# EAGLE library part TL974 (library ICs)
Operational Amplifier, Quad, 12 MHz, 4 Amplifier, 5 V/µs, 2.7V to 12V, TSSOP, 14 Pins
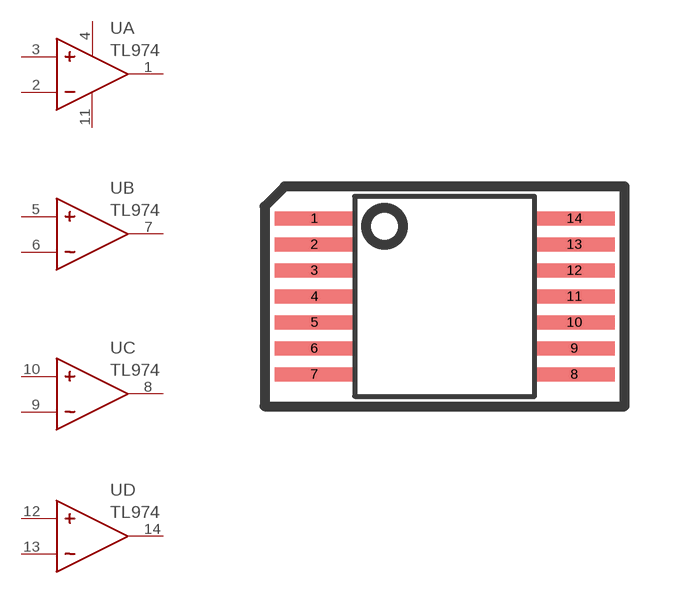
[diagram p124: symbol with the pads of TSSOP14; footprint TSSOP14]

Designator prefix U; gates A=OPAMP_SUPPLIES B=OPAMP_NOSUPPLIES C=OPAMP_NOSUPPLIES D=OPAMP_NOSUPPLIES

## TL974 (FARNELL: 2342307; HEIGHT: 1.2; PRICE_PER: 0.594; VALUE: TL974)  [TSSOP14]
1  A:OUT
2  A:-
3  A:+
4  A:V+
5  B:+
6  B:-
7  B:OUT
8  C:OUT
9  C:-
10  C:+
11  A:V-
12  D:+
13  D:-
14  D:OUT

## Footprint TSSOP14 (pad centres in mm)
smd 2 x 0.35: 1 -3.25,1.95; 2 -3.25,1.3; 3 -3.25,0.65; 4 -3.25,0; 5 -3.25,-0.65; 6 -3.25,-1.3; 7 -3.25,-1.95; 8 3.25,-1.95; 9 3.25,-1.3; 10 3.25,-0.65; 11 3.25,0; 12 3.25,0.65; 13 3.25,1.3; 14 3.25,1.95